# Altium schematic symbol library MOSFETs-D2PAK.SchLib: 1 symbol
Pins are listed as number, name and electrical type; pins without a type are passive.

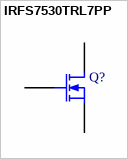
[diagram p0: symbol IRFS7530TRL7PP]

## IRFS7530TRL7PP
designator Q?
N-Channel MOSFET; Manufacturer: Infineon; PartNumber: IRFS7530TRL7PP; Published: 8-Jun-2000; LatestRevisionDate: 17-Jul-2002; LatestRevisionNote: Re-released for DXP Platform.; PackageVersion: 1995/1996; PackageReference: D2Pak-7PIN; Publisher: Altium Limited; PackageDescription: TO, Flat Index; 3 In-Line, Axial Leads; Body Dia. 4.6mm; Lead Dia. 0.5 mm (max)
footprint D2PAK-7 (D2-PAK, 7-Pads, Body 7.93x8.63mm (max), IPC Medium Density)
footprint D2PAK-7  w/Heatsink (D2-PAK, 7-Pads, Body 7.93x8.63mm (max), IPC Medium Density)
pins: 1 G, 2 S, 3 D